# Altium footprint library Microcontrollers$.PcbLib: 14 footprints
Each footprint in its own frame and in the unit in brackets; x right, y up, seen from the top. Pads: shape width x height; smd on the part's side, far side on the other; paste and mask are expansions set on the pad; w line width, h text height; cw(c..) or ccw(c..) is an arc to the next point about the centre after c.
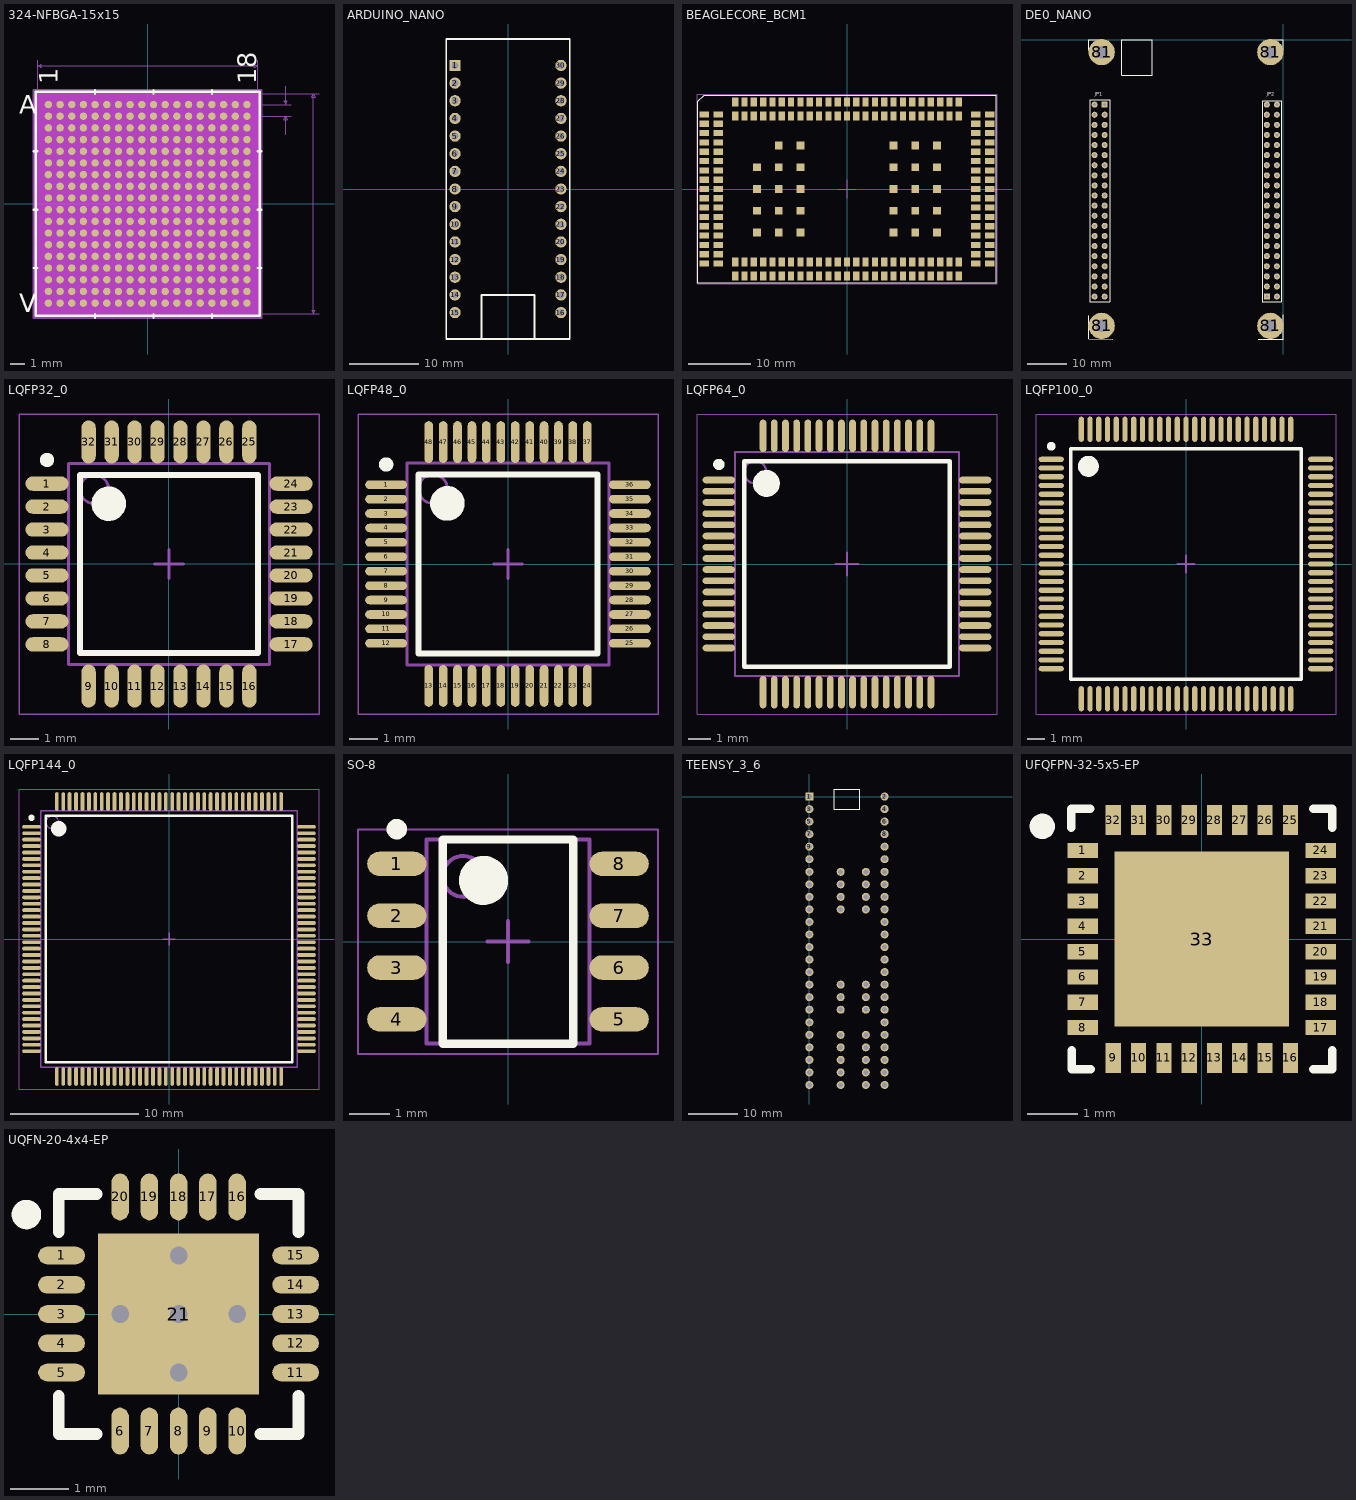
[diagram p0: the footprints below, top view; thin cyan lines are the x and y axes]

## 324-NFBGA-15x15 [mm] "324 pin NFBGA, 15x15mm"
pads (324):
  round 0.508 smd paste+0 mask+0: A1(-6.8,6.8) A2(-6,6.8) A3(-5.2,6.8) A4(-4.4,6.8) A5(-3.6,6.8) A6(-2.8,6.8) A7(-2,6.8) A8(-1.2,6.8) A9(-0.4,6.8) A10(0.4,6.8) A11(1.2,6.8) A12(2,6.8) A13(2.8,6.8) A14(3.6,6.8) A15(4.4,6.8) A16(5.2,6.8) A17(6,6.8) A18(6.8,6.8) B1(-6.8,6) B2(-6,6) B3(-5.2,6) B4(-4.4,6) B5(-3.6,6) B6(-2.8,6) B7(-2,6) B8(-1.2,6) B9(-0.4,6) B10(0.4,6) B11(1.2,6) B12(2,6) B13(2.8,6) B14(3.6,6) B15(4.4,6) B16(5.2,6) B17(6,6) B18(6.8,6) C1(-6.8,5.2) C2(-6,5.2) C3(-5.2,5.2) C4(-4.4,5.2) C5(-3.6,5.2) C6(-2.8,5.2) C7(-2,5.2) C8(-1.2,5.2) C9(-0.4,5.2) C10(0.4,5.2) C11(1.2,5.2) C12(2,5.2) C13(2.8,5.2) C14(3.6,5.2) C15(4.4,5.2) C16(5.2,5.2) C17(6,5.2) C18(6.8,5.2) D1(-6.8,4.4) D2(-6,4.4) D3(-5.2,4.4) D4(-4.4,4.4) D5(-3.6,4.4) D6(-2.8,4.4) D7(-2,4.4) D8(-1.2,4.4) D9(-0.4,4.4) D10(0.4,4.4) D11(1.2,4.4) D12(2,4.4) D13(2.8,4.4) D14(3.6,4.4) D15(4.4,4.4) D16(5.2,4.4) D17(6,4.4) D18(6.8,4.4) E1(-6.8,3.6) E2(-6,3.6) E3(-5.2,3.6) E4(-4.4,3.6) E5(-3.6,3.6) E6(-2.8,3.6) E7(-2,3.6) E8(-1.2,3.6) E9(-0.4,3.6) E10(0.4,3.6) E11(1.2,3.6) E12(2,3.6) E13(2.8,3.6) E14(3.6,3.6) E15(4.4,3.6) E16(5.2,3.6) E17(6,3.6) E18(6.8,3.6) F1(-6.8,2.8) F2(-6,2.8) F3(-5.2,2.8) F4(-4.4,2.8) F5(-3.6,2.8) F6(-2.8,2.8) F7(-2,2.8) F8(-1.2,2.8) F9(-0.4,2.8) F10(0.4,2.8) F11(1.2,2.8) F12(2,2.8) F13(2.8,2.8) F14(3.6,2.8) F15(4.4,2.8) F16(5.2,2.8) F17(6,2.8) F18(6.8,2.8) G1(-6.8,2) G2(-6,2) G3(-5.2,2) G4(-4.4,2) G5(-3.6,2) G6(-2.8,2) G7(-2,2) G8(-1.2,2) G9(-0.4,2) G10(0.4,2) G11(1.2,2) G12(2,2) G13(2.8,2) G14(3.6,2) G15(4.4,2) G16(5.2,2) G17(6,2) G18(6.8,2) H1(-6.8,1.2) H2(-6,1.2) H3(-5.2,1.2) H4(-4.4,1.2) H5(-3.6,1.2) H6(-2.8,1.2) H7(-2,1.2) H8(-1.2,1.2) H9(-0.4,1.2) H10(0.4,1.2) H11(1.2,1.2) H12(2,1.2) H13(2.8,1.2) H14(3.6,1.2) H15(4.4,1.2) H16(5.2,1.2) H17(6,1.2) H18(6.8,1.2) J1(-6.8,0.4) J2(-6,0.4) J3(-5.2,0.4) J4(-4.4,0.4) J5(-3.6,0.4) J6(-2.8,0.4) J7(-2,0.4) J8(-1.2,0.4) J9(-0.4,0.4) J10(0.4,0.4) J11(1.2,0.4) J12(2,0.4) J13(2.8,0.4) J14(3.6,0.4) J15(4.4,0.4) J16(5.2,0.4) J17(6,0.4) J18(6.8,0.4) K1(-6.8,-0.4) K2(-6,-0.4) K3(-5.2,-0.4) K4(-4.4,-0.4) K5(-3.6,-0.4) K6(-2.8,-0.4) K7(-2,-0.4) K8(-1.2,-0.4) K9(-0.4,-0.4) K10(0.4,-0.4) K11(1.2,-0.4) K12(2,-0.4) K13(2.8,-0.4) K14(3.6,-0.4) K15(4.4,-0.4) K16(5.2,-0.4) K17(6,-0.4) K18(6.8,-0.4) L1(-6.8,-1.2) L2(-6,-1.2) L3(-5.2,-1.2) L4(-4.4,-1.2) L5(-3.6,-1.2) L6(-2.8,-1.2) L7(-2,-1.2) L8(-1.2,-1.2) L9(-0.4,-1.2) L10(0.4,-1.2) L11(1.2,-1.2) L12(2,-1.2) L13(2.8,-1.2) L14(3.6,-1.2) L15(4.4,-1.2) L16(5.2,-1.2) L17(6,-1.2) L18(6.8,-1.2) M1(-6.8,-2) M2(-6,-2) M3(-5.2,-2) M4(-4.4,-2) M5(-3.6,-2) M6(-2.8,-2) M7(-2,-2) M8(-1.2,-2) M9(-0.4,-2) M10(0.4,-2) M11(1.2,-2) M12(2,-2) M13(2.8,-2) M14(3.6,-2) M15(4.4,-2) M16(5.2,-2) M17(6,-2) M18(6.8,-2) N1(-6.8,-2.8) N2(-6,-2.8) N3(-5.2,-2.8) N4(-4.4,-2.8) N5(-3.6,-2.8) N6(-2.8,-2.8) N7(-2,-2.8) N8(-1.2,-2.8) N9(-0.4,-2.8) N10(0.4,-2.8) N11(1.2,-2.8) N12(2,-2.8) N13(2.8,-2.8) N14(3.6,-2.8) N15(4.4,-2.8) N16(5.2,-2.8) N17(6,-2.8) N18(6.8,-2.8) P1(-6.8,-3.6) P2(-6,-3.6) P3(-5.2,-3.6) P4(-4.4,-3.6) P5(-3.6,-3.6) P6(-2.8,-3.6) P7(-2,-3.6) P8(-1.2,-3.6) P9(-0.4,-3.6) P10(0.4,-3.6) P11(1.2,-3.6) P12(2,-3.6) P13(2.8,-3.6) P14(3.6,-3.6) P15(4.4,-3.6) P16(5.2,-3.6) P17(6,-3.6) P18(6.8,-3.6) R1(-6.8,-4.4) R2(-6,-4.4) R3(-5.2,-4.4) R4(-4.4,-4.4) R5(-3.6,-4.4) R6(-2.8,-4.4) R7(-2,-4.4) R8(-1.2,-4.4) R9(-0.4,-4.4) R10(0.4,-4.4) R11(1.2,-4.4) R12(2,-4.4) R13(2.8,-4.4) R14(3.6,-4.4) R15(4.4,-4.4) R16(5.2,-4.4) R17(6,-4.4) R18(6.8,-4.4) T1(-6.8,-5.2) T2(-6,-5.2) T3(-5.2,-5.2) T4(-4.4,-5.2) T5(-3.6,-5.2) T6(-2.8,-5.2) T7(-2,-5.2) T8(-1.2,-5.2) T9(-0.4,-5.2) T10(0.4,-5.2) T11(1.2,-5.2) T12(2,-5.2) T13(2.8,-5.2) T14(3.6,-5.2) T15(4.4,-5.2) T16(5.2,-5.2) T17(6,-5.2) T18(6.8,-5.2) U1(-6.8,-6) U2(-6,-6) U3(-5.2,-6) U4(-4.4,-6) U5(-3.6,-6) U6(-2.8,-6) U7(-2,-6) U8(-1.2,-6) U9(-0.4,-6) U10(0.4,-6) U11(1.2,-6) U12(2,-6) U13(2.8,-6) U14(3.6,-6) U15(4.4,-6) U16(5.2,-6) U17(6,-6) U18(6.8,-6) V1(-6.8,-6.8) V2(-6,-6.8) V3(-5.2,-6.8) V4(-4.4,-6.8) V5(-3.6,-6.8) V6(-2.8,-6.8) V7(-2,-6.8) V8(-1.2,-6.8) V9(-0.4,-6.8) V10(0.4,-6.8) V11(1.2,-6.8) V12(2,-6.8) V13(2.8,-6.8) V14(3.6,-6.8) V15(4.4,-6.8) V16(5.2,-6.8) V17(6,-6.8) V18(6.8,-6.8)
Top Overlay:
  lines w0.152: -7.798,-4.4 -7.544,-4.4 ; -7.798,-0.4 -7.544,-0.4 ; -7.798,3.6 -7.544,3.6 ; -3.6,-7.798 -3.6,-7.544 ; -3.6,7.544 -3.6,7.798 ; 0.4,-7.798 0.4,-7.544 ; 0.4,7.544 0.4,7.798 ; 4.4,-7.798 4.4,-7.544 ; 4.4,7.544 4.4,7.798 ; 7.544,-4.4 7.798,-4.4 ; 7.544,-0.4 7.798,-0.4 ; 7.544,3.6 7.798,3.6 ; -7.671,-7.671 7.671,-7.671 7.671,7.671 -7.671,7.671 -7.671,-7.671
  text "A" at -8.814,6.165 h1.27
  text "V" at -8.814,-7.435 h1.27
  text "1" at -6.165,8.179 h1.27
  text "18" at 7.435,8.179 h1.27
Bottom Overlay:
  text "A" at -8.179,6.165 h1.27
  text "V" at -8.179,-7.435 h1.27
  text "1" at -7.435,8.179 h1.27
  text "18" at 6.165,8.179 h1.27
Keep-Out Layer:
  region: -7.644,-7.644 -7.644,7.644 7.644,7.644 7.644,-7.644
Mechanical 7:
  lines w0.025: -7.544,0 -7.544,9.83 ; 0,-7.544 11.735,-7.544 ; 0,7.544 11.735,7.544 ; 6.8,6 9.83,6 ; 6.8,6.8 9.83,6.8 ; 7.544,0 7.544,9.83 ; 9.449,4.73 9.449,6 ; 9.449,8.07 9.449,6.8 ; -7.544,9.449 7.544,9.449 ; -7.544,9.449 -7.29,9.576 -7.29,9.322 -7.544,9.449 ; 7.544,9.449 7.29,9.576 7.29,9.322 7.544,9.449 ; 9.449,6 9.322,5.746 9.576,5.746 9.449,6 ; 9.449,6.8 9.322,7.054 9.576,7.054 9.449,6.8 ; 11.354,-7.544 11.354,7.544 ; 11.354,-7.544 11.227,-7.29 11.481,-7.29 11.354,-7.544 ; 11.354,7.544 11.227,7.29 11.481,7.29 11.354,7.544
  text "Default Padstyle: EX.508Y.508D0TA" at -10.477,-12.624 h1.27
  text "0.031in/0.8mm" at 9.957,6.082 h0.64
  text "0.594in/15.088mm" at -2.54,9.957 h0.64
  text "0.594in/15.088mm" at 11.862,-0.318 h0.64
Mechanical 13:
  lines w0.025: -7.544,7.144 -7.144,7.544 ; -7.544,-7.544 7.544,-7.544 7.544,7.544 -7.544,7.544 -7.544,-7.544
  text "A" at -8.814,6.165 h1.27
  text "V" at -8.814,-7.435 h1.27
  text "1" at -6.165,8.179 h1.27
  text "18" at 7.435,8.179 h1.27
Mechanical 15:
  region: 7.798,-7.798 -7.798,-7.798 -7.798,7.798 7.798,7.798
  lines w0.152: -7.798,-7.798 -7.798,7.798 7.798,7.798 7.798,-7.798 -7.798,-7.798
3D body: height 0.25, standoff 0, extent 0,0 0.254,0.254

## ARDUINO_NANO [mil] "Arduino Nano, ATMega328 Dev Board"
pads (30):
  rect 64x64 hole 40: 1(-300,700)
  round 64 hole 40: 2(-300,600) 3(-300,500) 4(-300,400) 5(-300,300) 6(-300,200) 7(-300,100) 8(-300,0) 9(-300,-100) 10(-300,-200) 11(-300,-300) 12(-300,-400) 13(-300,-500) 14(-300,-600) 15(-300,-700) 16(300,-700) 17(300,-600) 18(300,-500) 19(300,-400) 20(300,-300) 21(300,-200) 22(300,-100) 23(300,0) 24(300,100) 25(300,200) 26(300,300) 27(300,400) 28(300,500) 29(300,600) 30(300,700)
Top Overlay:
  lines w10: -150,-850 -150,-600 150,-600 150,-850 ; -350,-850 -350,850 350,850 350,-850 -350,-850

## BEAGLECORE_BCM1 [mm] "BeagleCore SOM LGA footprint"
pads (197):
  rect 1.5x1 smd: 1(-23,12) 2(-23,10.5) 3(-23,9) 4(-23,7.5) 5(-23,6) 6(-23,4.5) 7(-23,3) 8(-23,1.5) 9(-23,0) 10(-23,-1.5) 11(-23,-3) 12(-23,-4.5) 13(-23,-6) 14(-23,-7.5) 15(-23,-9) 16(-23,-10.5) 17(-23,-12) 18(-20.75,12) 19(-20.75,10.5) 20(-20.75,9) 21(-20.75,7.5) 22(-20.75,6) 23(-20.75,4.5) 24(-20.75,3) 25(-20.75,1.5) 26(-20.75,0) 27(-20.75,-1.5) 28(-20.75,-3) 29(-20.75,-4.5) 30(-20.75,-6) 31(-20.75,-7.5) 32(-20.75,-9) 33(-20.75,-10.5) 34(-20.75,-12) 85(23,-12) 86(23,-10.5) 87(23,-9.025) 88(23,-7.5) 89(23,-6) 90(23,-4.5) 91(23,-3) 92(23,-1.5) 93(23,0) 94(23,1.5) 95(23,3) 96(23,4.5) 97(23,6) 98(23,7.5) 99(23,9) 100(23,10.5) 101(23,12) 102(20.75,-12) 103(20.75,-10.5) 104(20.75,-9) 105(20.75,-7.5) 106(20.75,-6) 107(20.75,-4.5) 108(20.75,-3) 109(20.75,-1.5) 110(20.75,0) 111(20.75,1.5) 112(20.75,3) 113(20.75,4.5) 114(20.75,6) 115(20.75,7.5) 116(20.75,9) 117(20.75,10.5) 118(20.75,12)
  rect 1x1.5 smd: 35(-18,-14) 36(-16.5,-14) 37(-15,-14) 38(-13.5,-14) 39(-12,-14) 40(-10.5,-14) 41(-9,-14) 42(-7.5,-14) 43(-6,-14) 44(-4.5,-14) 45(-3,-14) 46(-1.5,-14) 47(0,-14) 48(1.5,-14) 49(3,-14) 50(4.5,-14) 51(6,-14) 52(7.5,-14) 53(9,-14) 54(10.5,-14) 55(12,-14) 56(13.5,-14) 57(15,-14) 58(16.5,-14) 59(18,-14) 60(-18,-11.75) 61(-16.5,-11.75) 62(-15,-11.75) 63(-13.5,-11.75) 64(-12,-11.75) 65(-10.5,-11.75) 66(-9,-11.75) 67(-7.5,-11.75) 68(-6,-11.75) 69(-4.5,-11.75) 70(-3,-11.75) 71(-1.5,-11.75) 72(0,-11.75) 73(1.5,-11.75) 74(3,-11.75) 75(4.5,-11.75) 76(6,-11.75) 77(7.5,-11.75) 78(9,-11.75) 79(10.5,-11.75) 80(12,-11.75) 81(13.5,-11.75) 82(15,-11.75) 83(16.5,-11.75) 84(18,-11.75) 119(18,14) 120(16.5,14) 121(15,14) 122(13.5,14) 123(12,14) 124(10.5,14) 125(9,14) 126(7.5,14) 127(6,14) 128(4.5,14) 129(3,14) 130(1.5,14) 131(0,14) 132(-1.5,14) 133(-3,14) 134(-4.5,14) 135(-6,14) 136(-7.5,14) 137(-9,14) 138(-10.5,14) 139(-12,14) 140(-13.5,14) 141(-15,14) 142(-16.5,14) 143(-18,14) 144(18,11.75) 145(16.5,11.75) 146(15,11.75) 147(13.5,11.75) 148(12,11.75) 149(10.5,11.75) 150(9,11.75) 151(7.5,11.75) 152(6,11.75) 153(4.5,11.75) 154(3,11.75) 155(1.5,11.75) 156(0,11.75) 157(-1.5,11.75) 158(-3,11.75) 159(-4.5,11.75) 160(-6,11.75) 161(-7.5,11.75) 162(-9,11.75) 163(-10.5,11.75) 164(-12,11.75) 165(-13.5,11.75) 166(-15,11.75) 167(-16.5,11.75) 168(-18,11.75)
  rect 1.25x1.25 smd: A2(-14.5,3.5) A3(-14.5,0) A4(-14.5,-3.5) A5(-14.5,-7) B1(-11,7) B2(-11,3.5) B3(-11,0) B4(-11,-3.5) B5(-11,-7) C1(-7.5,7) C2(-7.5,3.5) C3(-7.5,0) C4(-7.5,-3.5) C5(-7.5,-7) G1(7.5,7) G2(7.5,3.5) G3(7.5,0) G4(7.5,-3.5) G5(7.5,-7) H1(11,7) H2(11,3.5) H3(11,0) H4(11,-3.5) H5(11,-7) I1(14.5,7) I2(14.5,3.5) I3(14.5,0) I4(14.5,-3.5) I5(14.5,-7)
Top Overlay:
  lines w0.2: -24,-15.11 24,-15.11 24,15.11 -22.99,15.11 -24,14.1 -24,-15.11
Mechanical 15:
  lines w0.05: -24.15,-15.25 -24.15,15.25 24.15,15.25 24.15,-15.25 -24.15,-15.25
  lines w0.2: -1.5,0 0,0 ; 0,-1.5 0,0 ; 0,1.5 0,0 ; 1.5,0 0,0
3D body "CM01_BeagleCORE.step": height 3.23, standoff 0.01, extent -24,-15.1 24,15.1

## DE0_NANO [mil] "Footprint for DE0 Nano GPIO Expansion Headers"
pads (84):
  rect 60x60 hole 30: 1(-1770,-640) 41(-165,-2540)
  round 60 hole 30: 2(-1869.92,-640) 3(-1769.92,-740) 4(-1869.92,-740) 5(-1769.92,-840) 6(-1869.92,-840) 7(-1769.92,-940) 8(-1869.92,-940) 9(-1769.92,-1040) 10(-1869.92,-1040) 11(-1769.92,-1140) 12(-1869.92,-1140) 13(-1769.92,-1240) 14(-1869.92,-1240) 15(-1769.92,-1340) 16(-1869.92,-1340) 17(-1769.92,-1440) 18(-1869.92,-1440) 19(-1769.92,-1540) 20(-1869.92,-1540) 21(-1769.92,-1640) 22(-1869.92,-1640) 23(-1769.92,-1740) 24(-1869.92,-1740) 25(-1769.92,-1840) 26(-1869.92,-1840) 27(-1769.92,-1940) 28(-1869.92,-1940) 29(-1769.92,-2040) 30(-1869.92,-2040) 31(-1769.92,-2140) 32(-1869.92,-2140) 33(-1769.92,-2240) 34(-1869.92,-2240) 35(-1769.92,-2340) 36(-1869.92,-2340) 37(-1769.92,-2440) 38(-1869.92,-2440) 39(-1769.92,-2540) 40(-1869.92,-2540) 42(-64.96,-2540.16) 43(-165,-2440) 44(-65,-2440) 45(-165,-2340) 46(-65,-2340) 47(-165,-2240) 48(-65,-2240) 49(-165,-2140) 50(-65,-2140) 51(-165,-2040) 52(-65,-2040) 53(-165,-1940) 54(-65,-1940) 55(-165,-1840) 56(-65,-1840) 57(-165,-1740) 58(-65,-1740) 59(-165,-1640) 60(-65,-1640) 61(-165,-1540) 62(-65,-1540) 63(-165,-1440) 64(-65,-1440) 65(-165,-1340) 66(-65,-1340) 67(-165,-1240) 68(-65,-1240) 69(-165,-1140) 70(-65,-1140) 71(-165,-1040) 72(-65,-1040) 73(-165,-940) 74(-65,-940) 75(-165,-840) 76(-65,-840) 77(-165,-740) 78(-65,-740) 79(-165,-640) 80(-65,-640)
  round 259.84 hole 125.98: 81(-1800,-2829.92) 81(-1800,-120.08) 81(-129.92,-2829.92) 81(-129.92,-120.08)
Top Overlay:
  lines w5: -1930,-2730 -1930,-2959.84 -1690,-2960 ; -1930,-100 -1930,0 -1920,0 -1830,0 ; -250,-2960 0,-2960 0,-2720 ; -100,0 0,0 0,-100 ; -1919.92,-2590 -1919.92,-590 -1719.92,-590 -1719.92,-2590 -1919.92,-2590 ; -1600,-350 -1300,-350 -1300,0 -1600,0 -1600,-350 ; -210.04,-2590 -210.04,-600 -20.04,-600 -20.04,-2590 -210.04,-2590
  text "JP1" at -1870,-550 h35
  text "JP2" at -165,-550 h35

## LQFP32_0 [mm] "LQFP32, 7.00x7.00mm, 0.80mm"
height 1.2
pads (32):
  oval 1.5x0.5 smd mask+0.075: 1(-4.25,2.8) 2(-4.25,2) 3(-4.25,1.2) 4(-4.25,0.4) 5(-4.25,-0.4) 6(-4.25,-1.2) 7(-4.25,-2) 8(-4.25,-2.8) 17(4.25,-2.8) 18(4.25,-2) 19(4.25,-1.2) 20(4.25,-0.4) 21(4.25,0.4) 22(4.25,1.2) 23(4.25,2) 24(4.25,2.8)
  oval 0.5x1.5 smd mask+0.075: 9(-2.8,-4.25) 10(-2,-4.25) 11(-1.2,-4.25) 12(-0.4,-4.25) 13(0.4,-4.25) 14(1.2,-4.25) 15(2,-4.25) 16(2.8,-4.25) 25(2.8,4.25) 26(2,4.25) 27(1.2,4.25) 28(0.4,4.25) 29(-0.4,4.25) 30(-1.2,4.25) 31(-2,4.25) 32(-2.8,4.25)
Top Overlay:
  circle w0.25: c-4.25,3.625 r0.125
  circle w0.6: c-2.1,2.1 r0.3
  lines w0.2: -3.1,-3.1 -3.1,3.1 3.1,3.1 3.1,-3.1 -3.1,-3.1
Mechanical 13:
  circle w0.1: c-2.6,2.6 r0.5
  lines w0.1: -3.5,-3.5 -3.5,3.5 3.5,3.5 3.5,-3.5 -3.5,-3.5
Mechanical 15:
  lines w0.05: -5.225,-5.225 -5.225,5.225 5.225,5.225 5.225,-5.225 -5.225,-5.225
  lines w0.1: -0.5,0 0.5,0 ; 0,-0.5 0,0.5
3D body: height 1.2, standoff 0.15, extent -3.5,-3.5 3.5,3.5

## LQFP48_0 [mm] "LQFP48, 7.00x7.00mm, 0.50mm"
height 1.6
pads (48):
  oval 1.45x0.3 smd: 1(-4.225,2.75) 2(-4.225,2.25) 3(-4.225,1.75) 4(-4.225,1.25) 5(-4.225,0.75) 6(-4.225,0.25) 7(-4.225,-0.25) 8(-4.225,-0.75) 9(-4.225,-1.25) 10(-4.225,-1.75) 11(-4.225,-2.25) 12(-4.225,-2.75) 25(4.225,-2.75) 26(4.225,-2.25) 27(4.225,-1.75) 28(4.225,-1.25) 29(4.225,-0.75) 30(4.225,-0.25) 31(4.225,0.25) 32(4.225,0.75) 33(4.225,1.25) 34(4.225,1.75) 35(4.225,2.25) 36(4.225,2.75)
  oval 0.3x1.45 smd: 13(-2.75,-4.225) 14(-2.25,-4.225) 15(-1.75,-4.225) 16(-1.25,-4.225) 17(-0.75,-4.225) 18(-0.25,-4.225) 19(0.25,-4.225) 20(0.75,-4.225) 21(1.25,-4.225) 22(1.75,-4.225) 23(2.25,-4.225) 24(2.75,-4.225) 37(2.75,4.225) 38(2.25,4.225) 39(1.75,4.225) 40(1.25,4.225) 41(0.75,4.225) 42(0.25,4.225) 43(-0.25,4.225) 44(-0.75,4.225) 45(-1.25,4.225) 46(-1.75,4.225) 47(-2.25,4.225) 48(-2.75,4.225)
Top Overlay:
  circle w0.25: c-4.225,3.45 r0.125
  circle w0.6: c-2.1,2.1 r0.3
  lines w0.2: -3.1,-3.1 -3.1,3.1 3.1,3.1 3.1,-3.1 -3.1,-3.1
Mechanical 13:
  circle w0.1: c-2.6,2.6 r0.5
  lines w0.1: -3.5,-3.5 -3.5,3.5 3.5,3.5 3.5,-3.5 -3.5,-3.5
Mechanical 15:
  lines w0.05: -5.2,-5.2 -5.2,5.2 5.2,5.2 5.2,-5.2 -5.2,-5.2
  lines w0.1: -0.5,0 0.5,0 ; 0,-0.5 0,0.5
3D body: height 1.6, standoff 0.15, extent -3.5,-3.5 3.5,3.5

## LQFP64_0 [mm] "LQFP64, 10.00x10.00mm, 0.50mm"
height 1.6
pads (64):
  oval 1.45x0.3 smd: 1(-5.725,3.75) 2(-5.725,3.25) 3(-5.725,2.75) 4(-5.725,2.25) 5(-5.725,1.75) 6(-5.725,1.25) 7(-5.725,0.75) 8(-5.725,0.25) 9(-5.725,-0.25) 10(-5.725,-0.75) 11(-5.725,-1.25) 12(-5.725,-1.75) 13(-5.725,-2.25) 14(-5.725,-2.75) 15(-5.725,-3.25) 16(-5.725,-3.75) 33(5.725,-3.75) 34(5.725,-3.25) 35(5.725,-2.75) 36(5.725,-2.25) 37(5.725,-1.75) 38(5.725,-1.25) 39(5.725,-0.75) 40(5.725,-0.25) 41(5.725,0.25) 42(5.725,0.75) 43(5.725,1.25) 44(5.725,1.75) 45(5.725,2.25) 46(5.725,2.75) 47(5.725,3.25) 48(5.725,3.75)
  oval 0.3x1.45 smd: 17(-3.75,-5.725) 18(-3.25,-5.725) 19(-2.75,-5.725) 20(-2.25,-5.725) 21(-1.75,-5.725) 22(-1.25,-5.725) 23(-0.75,-5.725) 24(-0.25,-5.725) 25(0.25,-5.725) 26(0.75,-5.725) 27(1.25,-5.725) 28(1.75,-5.725) 29(2.25,-5.725) 30(2.75,-5.725) 31(3.25,-5.725) 32(3.75,-5.725) 49(3.75,5.725) 50(3.25,5.725) 51(2.75,5.725) 52(2.25,5.725) 53(1.75,5.725) 54(1.25,5.725) 55(0.75,5.725) 56(0.25,5.725) 57(-0.25,5.725) 58(-0.75,5.725) 59(-1.25,5.725) 60(-1.75,5.725) 61(-2.25,5.725) 62(-2.75,5.725) 63(-3.25,5.725) 64(-3.75,5.725)
Top Overlay:
  circle w0.25: c-5.725,4.45 r0.125
  circle w0.6: c-3.6,3.6 r0.3
  lines w0.2: -4.6,-4.6 -4.6,4.6 4.6,4.6 4.6,-4.6 -4.6,-4.6
Mechanical 13:
  circle w0.1: c-4.1,4.1 r0.5
  lines w0.1: -5,-5 -5,5 5,5 5,-5 -5,-5
Mechanical 15:
  lines w0.05: -6.7,-6.7 -6.7,6.7 6.7,6.7 6.7,-6.7 -6.7,-6.7
  lines w0.1: -0.5,0 0.5,0 ; 0,-0.5 0,0.5
3D body: height 1.6, standoff 0.05, extent -5,-5 5,5

## LQFP100_0 [mm] "LQFP100, 14.00x14.00mm, 0.50mm"
height 1.6
pads (100):
  oval 1.45x0.3 smd mask+0.05: 1(-7.725,6) 2(-7.725,5.5) 3(-7.725,5) 4(-7.725,4.5) 5(-7.725,4) 6(-7.725,3.5) 7(-7.725,3) 8(-7.725,2.5) 9(-7.725,2) 10(-7.725,1.5) 11(-7.725,1) 12(-7.725,0.5) 13(-7.725,0) 14(-7.725,-0.5) 15(-7.725,-1) 16(-7.725,-1.5) 17(-7.725,-2) 18(-7.725,-2.5) 19(-7.725,-3) 20(-7.725,-3.5) 21(-7.725,-4) 22(-7.725,-4.5) 23(-7.725,-5) 24(-7.725,-5.5) 25(-7.725,-6) 51(7.725,-6) 52(7.725,-5.5) 53(7.725,-5) 54(7.725,-4.5) 55(7.725,-4) 56(7.725,-3.5) 57(7.725,-3) 58(7.725,-2.5) 59(7.725,-2) 60(7.725,-1.5) 61(7.725,-1) 62(7.725,-0.5) 63(7.725,0) 64(7.725,0.5) 65(7.725,1) 66(7.725,1.5) 67(7.725,2) 68(7.725,2.5) 69(7.725,3) 70(7.725,3.5) 71(7.725,4) 72(7.725,4.5) 73(7.725,5) 74(7.725,5.5) 75(7.725,6)
  oval 0.3x1.45 smd mask+0.05: 26(-6,-7.725) 27(-5.5,-7.725) 28(-5,-7.725) 29(-4.5,-7.725) 30(-4,-7.725) 31(-3.5,-7.725) 32(-3,-7.725) 33(-2.5,-7.725) 34(-2,-7.725) 35(-1.5,-7.725) 36(-1,-7.725) 37(-0.5,-7.725) 38(0,-7.725) 39(0.5,-7.725) 40(1,-7.725) 41(1.5,-7.725) 42(2,-7.725) 43(2.5,-7.725) 44(3,-7.725) 45(3.5,-7.725) 46(4,-7.725) 47(4.5,-7.725) 48(5,-7.725) 49(5.5,-7.725) 50(6,-7.725) 76(6,7.725) 77(5.5,7.725) 78(5,7.725) 79(4.5,7.725) 80(4,7.725) 81(3.5,7.725) 82(3,7.725) 83(2.5,7.725) 84(2,7.725) 85(1.5,7.725) 86(1,7.725) 87(0.5,7.725) 88(0,7.725) 89(-0.5,7.725) 90(-1,7.725) 91(-1.5,7.725) 92(-2,7.725) 93(-2.5,7.725) 94(-3,7.725) 95(-3.5,7.725) 96(-4,7.725) 97(-4.5,7.725) 98(-5,7.725) 99(-5.5,7.725) 100(-6,7.725)
Top Overlay:
  circle w0.25: c-7.725,6.75 r0.125
  circle w0.6: c-5.6,5.6 r0.3
  lines w0.2: -6.6,-6.6 -6.6,6.6 6.6,6.6 6.6,-6.6 -6.6,-6.6
Mechanical 15:
  lines w0.05: -8.6,-8.6 -8.6,8.6 8.6,8.6 8.6,-8.6 -8.6,-8.6
  lines w0.1: -0.5,0 0.5,0 ; 0,-0.5 0,0.5
3D body "LQFP100.SLDPRT": height 1.1, standoff -0.05, extent -8.009,-8.004 8,8.004

## LQFP144_0 [mm] "LQFP144, 20.00x20.00mm, 0.50mm"
height 1.6
pads (144):
  oval 1.45x0.3 smd: 1(-10.725,8.75) 2(-10.725,8.25) 3(-10.725,7.75) 4(-10.725,7.25) 5(-10.725,6.75) 6(-10.725,6.25) 7(-10.725,5.75) 8(-10.725,5.25) 9(-10.725,4.75) 10(-10.725,4.25) 11(-10.725,3.75) 12(-10.725,3.25) 13(-10.725,2.75) 14(-10.725,2.25) 15(-10.725,1.75) 16(-10.725,1.25) 17(-10.725,0.75) 18(-10.725,0.25) 19(-10.725,-0.25) 20(-10.725,-0.75) 21(-10.725,-1.25) 22(-10.725,-1.75) 23(-10.725,-2.25) 24(-10.725,-2.75) 25(-10.725,-3.25) 26(-10.725,-3.75) 27(-10.725,-4.25) 28(-10.725,-4.75) 29(-10.725,-5.25) 30(-10.725,-5.75) 31(-10.725,-6.25) 32(-10.725,-6.75) 33(-10.725,-7.25) 34(-10.725,-7.75) 35(-10.725,-8.25) 36(-10.725,-8.75) 73(10.725,-8.75) 74(10.725,-8.25) 75(10.725,-7.75) 76(10.725,-7.25) 77(10.725,-6.75) 78(10.725,-6.25) 79(10.725,-5.75) 80(10.725,-5.25) 81(10.725,-4.75) 82(10.725,-4.25) 83(10.725,-3.75) 84(10.725,-3.25) 85(10.725,-2.75) 86(10.725,-2.25) 87(10.725,-1.75) 88(10.725,-1.25) 89(10.725,-0.75) 90(10.725,-0.25) 91(10.725,0.25) 92(10.725,0.75) 93(10.725,1.25) 94(10.725,1.75) 95(10.725,2.25) 96(10.725,2.75) 97(10.725,3.25) 98(10.725,3.75) 99(10.725,4.25) 100(10.725,4.75) 101(10.725,5.25) 102(10.725,5.75) 103(10.725,6.25) 104(10.725,6.75) 105(10.725,7.25) 106(10.725,7.75) 107(10.725,8.25) 108(10.725,8.75)
  oval 0.3x1.45 smd: 37(-8.75,-10.725) 38(-8.25,-10.725) 39(-7.75,-10.725) 40(-7.25,-10.725) 41(-6.75,-10.725) 42(-6.25,-10.725) 43(-5.75,-10.725) 44(-5.25,-10.725) 45(-4.75,-10.725) 46(-4.25,-10.725) 47(-3.75,-10.725) 48(-3.25,-10.725) 49(-2.75,-10.725) 50(-2.25,-10.725) 51(-1.75,-10.725) 52(-1.25,-10.725) 53(-0.75,-10.725) 54(-0.25,-10.725) 55(0.25,-10.725) 56(0.75,-10.725) 57(1.25,-10.725) 58(1.75,-10.725) 59(2.25,-10.725) 60(2.75,-10.725) 61(3.25,-10.725) 62(3.75,-10.725) 63(4.25,-10.725) 64(4.75,-10.725) 65(5.25,-10.725) 66(5.75,-10.725) 67(6.25,-10.725) 68(6.75,-10.725) 69(7.25,-10.725) 70(7.75,-10.725) 71(8.25,-10.725) 72(8.75,-10.725) 109(8.75,10.725) 110(8.25,10.725) 111(7.75,10.725) 112(7.25,10.725) 113(6.75,10.725) 114(6.25,10.725) 115(5.75,10.725) 116(5.25,10.725) 117(4.75,10.725) 118(4.25,10.725) 119(3.75,10.725) 120(3.25,10.725) 121(2.75,10.725) 122(2.25,10.725) 123(1.75,10.725) 124(1.25,10.725) 125(0.75,10.725) 126(0.25,10.725) 127(-0.25,10.725) 128(-0.75,10.725) 129(-1.25,10.725) 130(-1.75,10.725) 131(-2.25,10.725) 132(-2.75,10.725) 133(-3.25,10.725) 134(-3.75,10.725) 135(-4.25,10.725) 136(-4.75,10.725) 137(-5.25,10.725) 138(-5.75,10.725) 139(-6.25,10.725) 140(-6.75,10.725) 141(-7.25,10.725) 142(-7.75,10.725) 143(-8.25,10.725) 144(-8.75,10.725)
Top Overlay:
  circle w0.6: c-8.6,8.6 r0.3
  circle w0.25: c-10.725,9.45 r0.125
  lines w0.2: -9.6,-9.6 9.6,-9.6 9.6,9.6 -9.6,9.6 -9.6,-9.6
Mechanical 13:
  circle w0.1: c-9.1,9.1 r0.5
  lines w0.1: -10,-10 10,-10 10,10 -10,10 -10,-10
Mechanical 15:
  lines w0.05: -11.7,-11.7 11.7,-11.7 11.7,11.7 -11.7,11.7 -11.7,-11.7
  lines w0.1: -0.5,0 0.5,0 ; 0,-0.5 0,0.5
3D body: height 1.6, standoff 0.15, extent -10,-10 10,10

## PCBComponent_1 [mm]

## SO-8 [mm] "SO-8 Package"
height 1.75
pads (8):
  oval 1.45x0.6 smd: 1(-2.725,1.905) 2(-2.725,0.635) 3(-2.725,-0.635) 4(-2.725,-1.905) 5(2.725,-1.905) 6(2.725,-0.635) 7(2.725,0.635) 8(2.725,1.905)
Top Overlay:
  circle w0.6: c-0.6,1.5 r0.3
  circle w0.25: c-2.725,2.755 r0.125
  lines w0.2: -1.6,-2.5 1.6,-2.5 1.6,2.5 -1.6,2.5 -1.6,-2.5
Mechanical 13:
  circle w0.1: c-1.1,1.6 r0.5
  lines w0.1: -2,-2.5 2,-2.5 2,2.5 -2,2.5 -2,-2.5
Mechanical 15:
  lines w0.05: -3.675,-2.75 3.675,-2.75 3.675,2.75 -3.675,2.75 -3.675,-2.75
  lines w0.1: -0.5,0 0.5,0 ; 0,-0.5 0,0.5
3D body "SOIC08 narrow.stp": height 2, standoff 0, extent -3.082,-2.5 3.081,2.5

## TEENSY_3_6 [mil]
pads (72):
  rect 64x64 hole 40: 1(0,0)
  round 64 hole 40: 2(600,0) 3(0,-100) 4(600,-100) 5(0,-200) 6(600,-200) 7(0,-300) 8(600,-300) 9(0,-400) 10(600,-400) 11(0,-500) 12(600,-500) 13(0,-600) 14(600,-600) 15(0,-700) 16(600,-700) 17(0,-800) 18(600,-800) 19(0,-900) 20(600,-900) 21(0,-1000) 22(600,-1000) 23(0,-1100) 24(600,-1100) 25(0,-1200) 26(600,-1200) 27(0,-1300) 28(600,-1300) 29(0,-1400) 30(600,-1400) 31(0,-1500) 32(600,-1500) 33(0,-1600) 34(600,-1600) 35(0,-1700) 36(600,-1700) 37(0,-1800) 38(600,-1800) 39(0,-1900) 40(600,-1900) 41(0,-2000) 42(600,-2000) 43(0,-2100) 44(600,-2100) 45(0,-2200) 46(600,-2200) 47(0,-2300) 48(600,-2300) 49(250,-1500) 50(250,-1600) 51(250,-1700) 52(250,-1900) 53(250,-2000) 54(250,-2100) 55(250,-2200) 56(250,-2300) 57(450,-2300) 58(450,-2200) 59(450,-2100) 60(450,-2000) 61(450,-1900) 62(450,-1700) 63(450,-1600) 64(450,-1500) 65(250,-600) 66(250,-700) 67(250,-800) 68(250,-900) 69(450,-900) 70(450,-800) 71(450,-700) 72(450,-600)
Top Overlay:
  lines w5: 200,-100 400,-100 400,60 200,60 200,-100
3D body "Teensy 3.5 - 3.6.step": height 609.67, standoff 92.45, extent -50,-2350 650,105.1
3D body "24_pos_pin_header.SLDPRT": height 335, standoff -126, extent -50,-2360 50,60
3D body "24_pos_pin_header.SLDPRT": height 335, standoff -126, extent 550,-2360 650,60

## UFQFPN-32-5x5-EP [mm]
pads (33):
  rect 0.6x0.3 smd mask+0.05: 1(-2.35,1.75) 2(-2.35,1.25) 3(-2.35,0.75) 4(-2.35,0.25) 5(-2.35,-0.25) 6(-2.35,-0.75) 7(-2.35,-1.25) 8(-2.35,-1.75) 17(2.35,-1.75) 18(2.35,-1.25) 19(2.35,-0.75) 20(2.35,-0.25) 21(2.35,0.25) 22(2.35,0.75) 23(2.35,1.25) 24(2.35,1.75)
  rect 0.3x0.6 smd mask+0.05: 9(-1.75,-2.35) 10(-1.25,-2.35) 11(-0.75,-2.35) 12(-0.25,-2.35) 13(0.25,-2.35) 14(0.75,-2.35) 15(1.25,-2.35) 16(1.75,-2.35) 25(1.75,2.35) 26(1.25,2.35) 27(0.75,2.35) 28(0.25,2.35) 29(-0.25,2.35) 30(-0.75,2.35) 31(-1.25,2.35) 32(-1.75,2.35)
  rect 3.45x3.45 smd mask+0.102: 33(0,0)
Top Overlay:
  circle w0.25: c-3.15,2.225 r0.125
  lines w0.17: -2.575,2.2 -2.575,2.575 -2.2,2.575 ; -2.568,-2.2 -2.568,-2.575 -2.193,-2.575 ; 2.2,2.575 2.575,2.575 2.575,2.2 ; 2.202,-2.571 2.577,-2.571 2.577,-2.196
3D body: height 0.55, standoff 0, extent -2.5,-2.5 2.5,2.5

## UQFN-20-4x4-EP [mm]
pads (21):
  oval 0.8x0.3 smd mask+0.05: 1(-2,1) 2(-2,0.5) 3(-2,0) 4(-2,-0.5) 5(-2,-1) 11(2,-1) 12(2,-0.5) 13(2,0) 14(2,0.5) 15(2,1)
  oval 0.3x0.8 smd mask+0.05: 6(-1,-2) 7(-0.5,-2) 8(0,-2) 9(0.5,-2) 10(1,-2) 16(1,2) 17(0.5,2) 18(0,2) 19(-0.5,2) 20(-1,2)
  rect 2.75x2.75 smd mask+0.05: 21(0,0)
via 0,-1 diameter 0.6 hole 0.3
via 1,0 diameter 0.6 hole 0.3
via 0,1 diameter 0.6 hole 0.3
via -1,0 diameter 0.6 hole 0.3
via 0,0 diameter 0.6 hole 0.3
Top Overlay:
  circle w0.25: c-2.6,1.7 r0.127
  lines w0.2: -2.05,-1.4 -2.05,-2.05 -1.4,-2.05 ; -2.05,1.4 -2.05,2.05 -1.4,2.05 ; 1.4,-2.05 2.05,-2.05 2.05,-1.4 ; 1.4,2.05 2.05,2.05 2.05,1.4
3D body: height 0.5, standoff 0, extent -2,-2 2,2